# EAGLE library part OS202011MA0QN1_RA-DPDT (library thecustomgeek)
Part 0S202011MA0QN1 from C&K Components. Through hole, right angle DPDT switch.
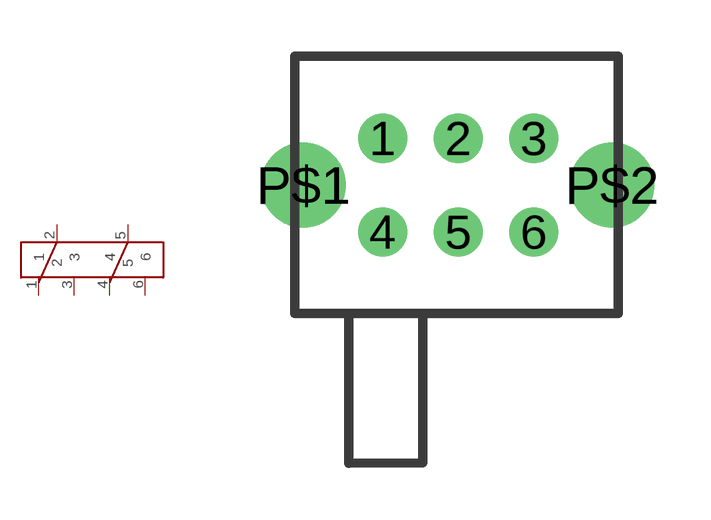
[diagram p9: symbol with the pads of OS202011MA0QN1_RA_DPDT; footprint OS202011MA0QN1_RA_DPDT]

Designator prefix -

## OS202011MA0QN1_RA-DPDT  [OS202011MA0QN1_RA_DPDT]
1  1
2  2
3  3
4  4
5  5
6  6

## Footprint OS202011MA0QN1_RA_DPDT (pad centres in mm)
drill 0.8: 1 -1.988,1.264; 2 0.018,1.264; 3 2.025,1.264; 4 -1.988,-1.225; 5 0.018,-1.225; 6 2.025,-1.225
drill 1.5: P$1 -4.097,0.019; P$2 4.108,0.019